# Altium footprint library Passive.PcbLib: 41 footprints (part 2 of 3)
Each footprint in its own frame and in the unit in brackets; x right, y up, seen from the top. Pads: shape width x height; smd on the part's side, far side on the other; paste and mask are expansions set on the pad; w line width, h text height; cw(c..) or ccw(c..) is an arc to the next point about the centre after c.
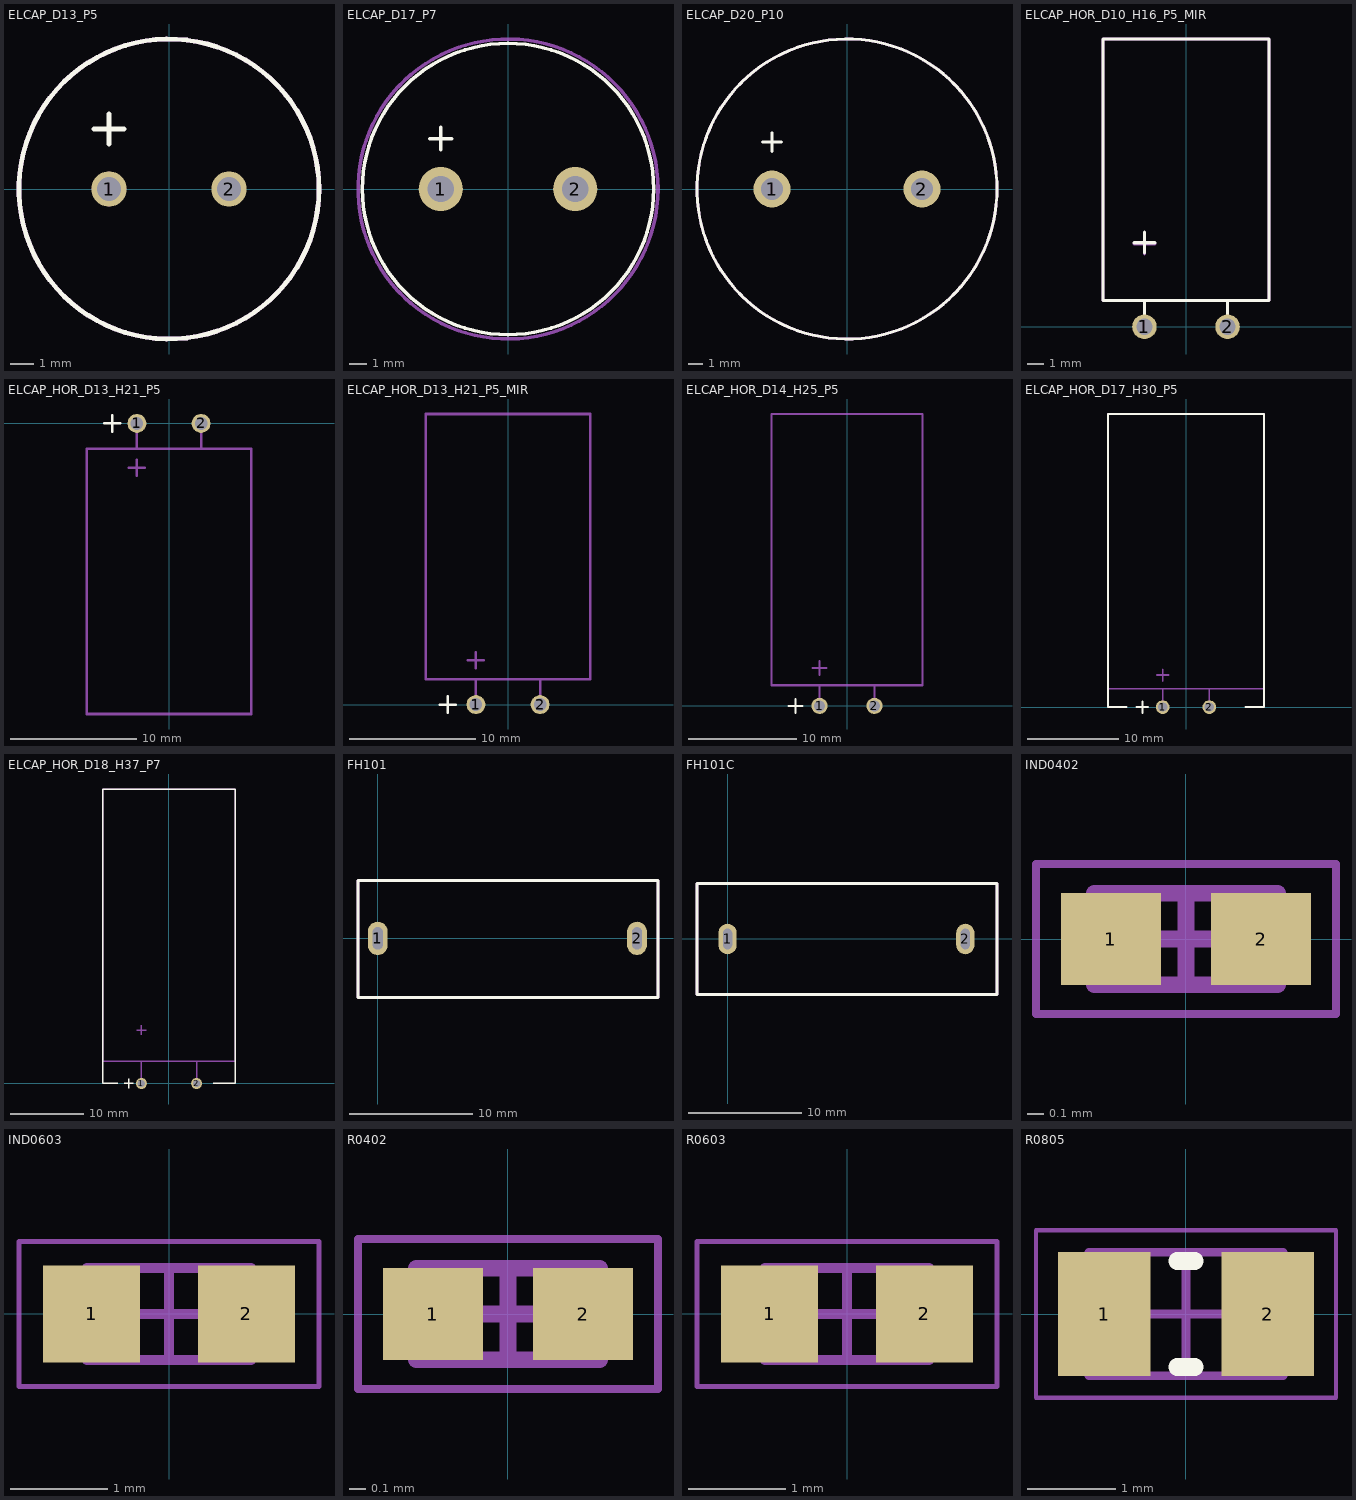
[diagram p1: the footprints below, top view; thin cyan lines are the x and y axes]

## ELCAP_D13_P5 [mm]
pads (2):
  round 1.5 hole 1: 1(-2.54,0) 2(2.54,0)
Top Overlay:
  circle w0.2: c0,0 r6.35
  lines w0.2: -3.175,2.54 -1.905,2.54 ; -2.54,1.905 -2.54,3.175
TopAssy:
  circle w0.2: c0,0 r6.35
  lines w0.2: -3.175,0 -1.905,0 ; -2.54,-0.635 -2.54,0.635
3D body: height 20, standoff 0, extent -6.5,-6.5 6.5,6.5

## ELCAP_D17_P7 [mm]
pads (2):
  round 2.5 hole 1.5: 1(-3.81,0) 2(3.81,0)
Top Overlay:
  circle w0.2: c0,0 r8.25
  lines w0.2: -4.445,2.857 -3.175,2.857 ; -3.81,2.222 -3.81,3.492
TopAssy:
  circle w0.2: c0,0 r8.5
  lines w0.2: -4.445,0 -3.175,0 ; -3.81,-0.635 -3.81,0.635
3D body: height 26, standoff 0, extent -9,-9 9,9

## ELCAP_D20_P10 [mm]
pads (2):
  round 2.5 hole 1.5: 1(-5.08,0) 2(5.08,0)
Top Overlay:
  circle w0.2: c0,0 r10.16
  lines w0.2: -5.715,3.175 -4.445,3.175 ; -5.08,2.54 -5.08,3.81
TopAssy:
  circle w0.2: c0,0 r10.16
  lines w0.2: -5.715,0 -4.445,0 ; -5.08,-0.635 -5.08,0.635
3D body: height 45, standoff 0, extent -10,-10 10,10

## ELCAP_HOR_D10_H16_P5_MIR [mm]
pads (2):
  round 1.5 hole 1: 1(-2.54,0) 2(2.54,0)
Top Overlay:
  lines w0.2: -3.175,5.143 -1.905,5.143 ; -2.54,0 -2.54,1.6 ; -2.54,4.508 -2.54,5.779 ; 2.54,-0.127 2.54,1.6 ; -5.08,1.6 -5.08,17.6 5.08,17.6 5.08,1.6 -5.08,1.6
TopAssy:
  lines w0.2: -3.175,5.08 -1.905,5.08 ; -2.54,0 -2.54,1.6 ; -2.54,4.445 -2.54,5.715 ; 2.54,0 2.54,1.6 ; -5.08,1.6 -5.08,17.6 5.08,17.6 5.08,1.6 -5.08,1.6
3D body "SW3dPS-Cap electro 10x16x5.0mm RA.STEP": height 10.13, standoff -3.58, extent -5.025,-0.4 5.025,17.589

## ELCAP_HOR_D13_H21_P5 [mm]
pads (2):
  round 1.5 hole 1: 1(-2.54,0) 2(2.54,0)
Top Overlay:
  lines w0.2: -5.143,0 -3.873,0 ; -4.508,-0.635 -4.508,0.635
TopAssy:
  lines w0.2: -3.175,-3.493 -1.905,-3.493 ; -2.54,-4.128 -2.54,-2.858 ; -2.54,-1.905 -2.54,0 ; 2.54,-1.905 2.54,0 ; -6.5,-23 -6.5,-2 6.5,-2 6.5,-23 -6.5,-23
3D body: height 6.5, standoff 0, extent 2.241,-0.3 2.84,0.297
3D body: height 6.5, standoff 0, extent -2.839,-0.3 -2.24,0.297
3D body: height 6.65, standoff 6.05, extent 2.241,-2 2.839,0
3D body: height 6.65, standoff 6.05, extent -2.839,-2 -2.241,0
3D body: height 13, standoff 0, extent -6.5,-23.032 6.5,-2.032

## ELCAP_HOR_D13_H21_P5_MIR [mm]
pads (2):
  round 1.5 hole 1: 1(-2.54,0) 2(2.54,0)
Top Overlay:
  lines w0.2: -5.397,0 -4.127,0 ; -4.763,-0.635 -4.763,0.635
TopAssy:
  lines w0.2: -3.175,3.492 -1.905,3.492 ; -2.54,0 -2.54,1.905 ; -2.54,2.857 -2.54,4.127 ; 2.54,0 2.54,1.905 ; -6.5,2 -6.5,23 6.5,23 6.5,2 -6.5,2
3D body: height 6.65, standoff 6.05, extent 2.241,0 2.839,2
3D body: height 6.65, standoff 6.05, extent -2.839,0 -2.241,2
3D body: height 6.5, standoff 0, extent 2.24,-0.297 2.839,0.3
3D body: height 6.5, standoff 0, extent -2.84,-0.297 -2.241,0.3
3D body: height 13, standoff 0, extent -6.5,2.032 6.5,23.032

## ELCAP_HOR_D14_H25_P5 [mm]
pads (2):
  round 1.5 hole 1: 1(-2.54,0) 2(2.54,0)
Top Overlay:
  lines w0.2: -5.397,0 -4.127,0 ; -4.763,-0.635 -4.763,0.635
TopAssy:
  lines w0.2: -3.175,3.492 -1.905,3.492 ; -2.54,0 -2.54,1.905 ; -2.54,2.857 -2.54,4.127 ; 2.54,0 2.54,1.905 ; -6.985,1.905 0,1.905 6.985,1.905 6.985,26.987 -6.985,26.987 -6.985,1.905
3D body: height 7, standoff 0, extent -2.84,-0.297 -2.241,0.3
3D body: height 7, standoff 0, extent 2.24,-0.297 2.839,0.3
3D body: height 7.15, standoff 6.55, extent -2.839,0 -2.241,2
3D body: height 7.15, standoff 6.55, extent 2.241,0 2.839,2
3D body: height 14, standoff 0, extent -7,2.032 7,27.032

## ELCAP_HOR_D17_H30_P5 [mm]
pads (2):
  round 1.5 hole 1: 1(-2.54,0) 2(2.54,0)
Top Overlay:
  lines w0.2: -6.5,0 -8.5,0 -8.5,32 8.5,32 8.5,0 6.5,0 ; -5.397,0 -4.127,0 ; -4.763,-0.635 -4.763,0.635
TopAssy:
  lines w0.2: -3.175,3.493 -1.905,3.493 ; -2.54,0 -2.54,1.905 ; -2.54,2.858 -2.54,4.128 ; 2.54,0 2.54,1.905 ; -8.5,2 -8.5,32 8.5,32 8.5,2 -8.5,2
3D body: height 6.5, standoff 0, extent -2.84,-0.297 -2.241,0.3
3D body: height 6.5, standoff 0, extent 2.24,-0.297 2.839,0.3
3D body: height 8.65, standoff 8.05, extent -2.839,0 -2.241,2
3D body: height 8.65, standoff 8.05, extent 2.241,0 2.839,2
3D body: height 17, standoff 0, extent -8.5,2.032 8.5,32.032

## ELCAP_HOR_D18_H37_P7 [mm]
pads (2):
  round 1.5 hole 1: 1(-3.75,0) 2(3.75,0)
Top Overlay:
  lines w0.2: -6.96,0 -9,0 -9,40 9,40 9,0 6.04,0 ; -6.107,0 -4.837,0 ; -5.472,-0.635 -5.472,0.635
TopAssy:
  lines w0.2: -4.385,7.243 -3.115,7.243 ; -3.75,0 -3.75,3 ; -3.75,6.608 -3.75,7.878 ; 3.75,0 3.75,3 ; -9,3 9,3 9,40 -9,40 -9,3
3D body: height 9.15, standoff 8.55, extent 3.451,0 4.049,3
3D body: height 9.15, standoff 8.55, extent -4.049,0 -3.451,3
3D body: height 9, standoff 0, extent 3.45,-0.297 4.049,0.3
3D body: height 9, standoff 0, extent -4.05,-0.297 -3.451,0.3
3D body: height 18, standoff 0, extent -9,3.048 9,40.048

## FH101 [mm]
pads (2):
  oval 1.6x2.7 hole 0.8 slot 1.8 at 90 deg: 1(0,0) 2(21,0)
Top Overlay:
  lines w0.254: -1.6,-4.8 -1.6,4.7 22.7,4.7 22.7,-4.8 -1.6,-4.8
TopAssy:
  lines w0.254: -1.6,-4.8 -1.6,4.7 22.7,4.7 22.7,-4.8 -1.6,-4.8
3D body "User Library-Fuse_Holder_FH-101-1.STEP": height 11.2, standoff -3.8, extent -1.616,-4.86 22.684,4.74

## FH101C [mm]
pads (2):
  oval 1.6x2.7 hole 0.8 slot 1.8 at 90 deg: 1(0,0) 2(21,0)
Top Overlay:
  lines w0.254: -2.7,-4.9 -2.7,4.9 23.8,4.9 23.8,-4.9 -2.7,-4.9
TopAssy:
  lines w0.254: -2.7,-4.9 -2.7,4.9 23.8,4.9 23.8,-4.9 -2.7,-4.9
3D body "User Library-FH-101C.step": height 13.5, standoff -2.9, extent -2.7,-4.9 23.8,4.9

## IND0402 [mm]
height 0.4
pads (2):
  rect 0.6x0.55 smd: 1(-0.45,0) 2(0.45,0)
TopAssy:
  lines w0.1: -0.55,-0.275 -0.55,0.275 0.55,0.275 0.55,-0.275 -0.55,-0.275
Mechanical 15:
  lines w0.05: -0.9,-0.45 -0.9,0.45 0.9,0.45 0.9,-0.45 -0.9,-0.45
  lines w0.1: -0.275,0 0.275,0 ; 0,-0.275 0,0.275
3D body: height 0.4, standoff 0, extent -0.35,-0.275 0.35,0.275
3D body: height 0.4, standoff 0, extent -0.55,-0.275 -0.35,0.275
3D body: height 0.4, standoff 0, extent 0.35,-0.275 0.55,0.275

## IND0603 [mm]
height 0.5
pads (2):
  rect 1x1 smd: 1(-0.8,0) 2(0.8,0)
TopAssy:
  lines w0.1: -0.85,-0.475 -0.85,0.475 0.85,0.475 0.85,-0.475 -0.85,-0.475
Mechanical 15:
  lines w0.05: -1.55,-0.75 -1.55,0.75 1.55,0.75 1.55,-0.75 -1.55,-0.75
  lines w0.1: -0.475,0 0.475,0 ; 0,-0.475 0,0.475
3D body: height 0.5, standoff 0, extent -0.85,-0.475 -0.55,0.475
3D body: height 0.5, standoff 0, extent 0.55,-0.475 0.85,0.475
3D body: height 0.5, standoff 0, extent -0.55,-0.475 0.55,0.475

## R0402 [mm]
height 0.4
pads (2):
  rect 0.6x0.55 smd: 1(-0.45,0) 2(0.45,0)
TopAssy:
  lines w0.1: -0.55,-0.275 -0.55,0.275 0.55,0.275 0.55,-0.275 -0.55,-0.275
Mechanical 15:
  lines w0.05: -0.9,-0.45 -0.9,0.45 0.9,0.45 0.9,-0.45 -0.9,-0.45
  lines w0.1: -0.275,0 0.275,0 ; 0,-0.275 0,0.275
3D body: height 0.4, standoff 0, extent -0.35,-0.275 0.35,0.275
3D body: height 0.4, standoff 0, extent -0.55,-0.275 -0.35,0.275
3D body: height 0.4, standoff 0, extent 0.35,-0.275 0.55,0.275

## R0603 [mm]
height 0.5
pads (2):
  rect 1x1 smd: 1(-0.8,0) 2(0.8,0)
TopAssy:
  lines w0.1: -0.85,-0.475 0.85,-0.475 0.85,0.475 -0.85,0.475 -0.85,-0.475
Mechanical 15:
  lines w0.05: -1.55,-0.75 1.55,-0.75 1.55,0.75 -1.55,0.75 -1.55,-0.75
  lines w0.1: -0.475,0 0.475,0 ; 0,-0.475 0,0.475
3D body: height 0.5, standoff 0, extent 0.55,-0.475 0.85,0.475
3D body: height 0.5, standoff 0, extent -0.85,-0.475 -0.55,0.475
3D body: height 0.5, standoff 0, extent -0.55,-0.475 0.55,0.475

## R0805 [mm] "Chip Resistor, 2-Leads, Body 2,10x1,30mm, IPC Medium Density"
height 0.55
pads (2):
  rect 1.05x1.4 smd: 1(-0.925,0) 2(0.925,0)
Top Overlay:
  lines w0.2: -0.1,-0.6 0.1,-0.6 ; -0.1,0.6 0.1,0.6
TopAssy:
  lines w0.1: -1.1,-0.7 1.1,-0.7 1.1,0.7 -1.1,0.7 -1.1,-0.7
Mechanical 15:
  lines w0.05: -1.7,-0.95 1.7,-0.95 1.7,0.95 -1.7,0.95 -1.7,-0.95
  lines w0.1: -0.5,0 0.5,0 ; 0,-0.5 0,0.5
3D body: height 0.55, standoff 0, extent 0.7,-0.7 1.1,0.7
3D body: height 0.55, standoff 0, extent -1.1,-0.7 -0.7,0.7
3D body "User Library-RES_2013-0805.STEP": height 0.76, standoff 0, extent -1.15,-0.675 1.15,0.675